# EAGLE library part 104031-0811 (library micro_sd)
10 (8 + 2) Position Card Connector Secure Digital - microSD™ Surface Mount, Right Angle Gold Check prices <https://pricing.snapeda.com/parts/104031-0811/Molex/view-part?ref=eda>
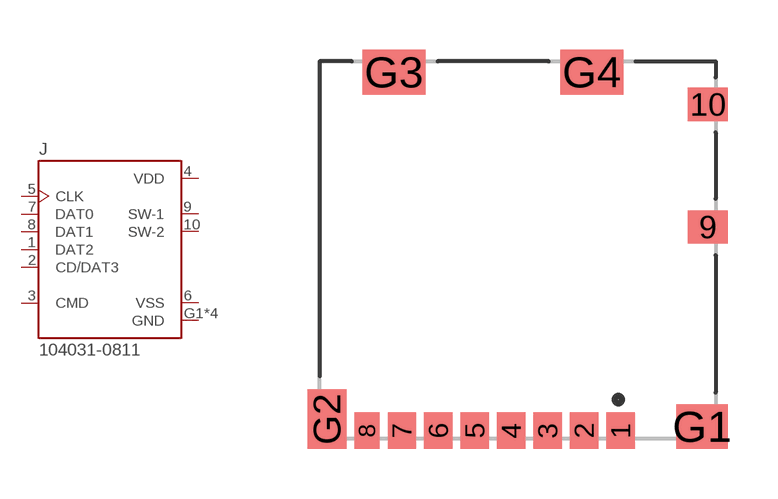
[diagram p0: symbol with the pads of MOLEX_104031-0811; footprint MOLEX_104031-0811]

Designator prefix J

## 104031-0811 (AVAILABILITY: Warning; DESCRIPTION: 10 (8 + 2) Position Card Connector Secure Digital - microSD™ Surface Mount, Right Angle Gold; MF: Molex; MP: 104031-0811; PACKAGE: None; PRICE: None; PURCHASE-URL: https://pricing.snapeda.com/search/part/104031-0811/?ref=eda)  [MOLEX_104031-0811]
1  DAT2
2  CD/DAT3
3  CMD
4  VDD  pwr
5  CLK  in
6  VSS  pwr
7  DAT0
8  DAT1
9  SW-1  pas
10  SW-2  pas
G1  GND  pwr
G2  GND  pwr
G3  GND  pwr
G4  GND  pwr

## Footprint MOLEX_104031-0811 (pad centres in mm)
smd 0.85 x 1.1: 1 3.105,-5.45; 2 2.005,-5.45; 3 0.905,-5.45; 4 -0.195,-5.45; 5 -1.295,-5.45; 6 -2.395,-5.45; 7 -3.495,-5.45
smd 0.75 x 1.1: 8 -4.545,-5.45
smd 1.2 x 1: 9 5.74,0.7; 10 5.74,4.4
smd 1.55 x 1.35: G1 5.565,-5.325
smd 1.17 x 1.8: G2 -5.755,-5.1
smd 1.9 x 1.35: G3 -3.73,5.375; G4 2.24,5.375